# Altium footprint library Daxxn_Packages.PcbLib: 84 footprints (part 6 of 6)
Each footprint in its own frame and in the unit in brackets; x right, y up, seen from the top. Pads: shape width x height; smd on the part's side, far side on the other; paste and mask are expansions set on the pad; w line width, h text height; cw(c..) or ccw(c..) is an arc to the next point about the centre after c.
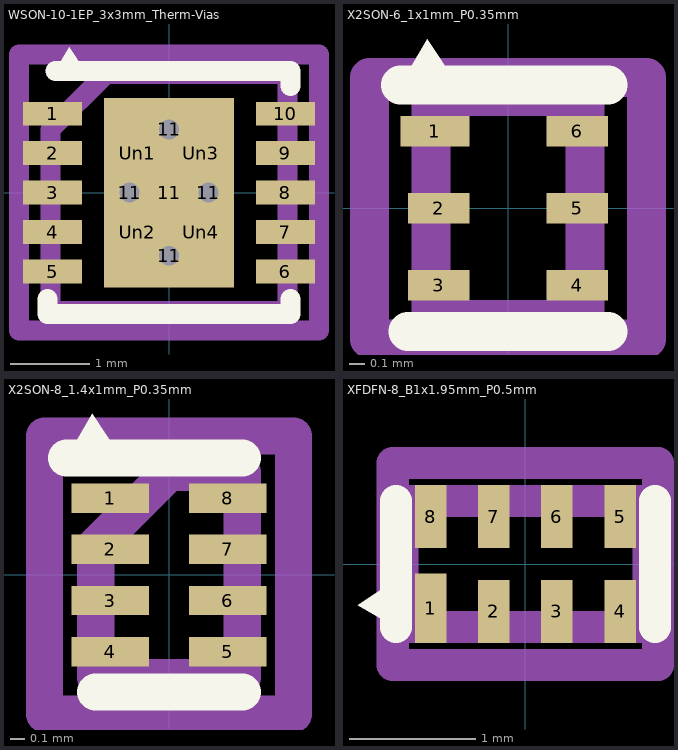
[diagram p5: the footprints below, top view; thin cyan lines are the x and y axes]

## WSON-10-1EP_3x3mm_Therm-Vias [mm]
pads (19):
  rect 0.75x0.3 smd: 1(-1.475,1) 2(-1.475,0.5) 3(-1.475,0) 4(-1.475,-0.5) 5(-1.475,-1) 6(1.475,-1) 7(1.475,-0.5) 8(1.475,0) 9(1.475,0.5) 10(1.475,1)
  round 0.55 hole 0.25: 11(-0.5,0) 11(0,-0.8) 11(0,0.8) 11(0.5,0)
  rect 1.65x2.4 smd: 11(0,0)
  rect 0.59x0.8 on Top Paste: Un1(-0.405,0.5) Un2(-0.405,-0.5) Un3(0.405,0.5) Un4(0.405,-0.5)
F.SilkS:
  region: -1.065,1.54 -1.44,1.54 -1.265,1.84
  lines w0.254: -1.54,-1.35 -1.54,-1.54 1.54,-1.54 1.54,-1.35 ; -1.44,1.54 1.54,1.54 1.54,1.35
F.CrtYd:
  lines w0.254: -1.9,-1.75 -1.9,1.75 1.9,1.75 1.9,-1.75 -1.9,-1.75
F.Fab:
  lines w0.254: -1.5,-1.5 -1.5,0.8 -0.8,1.5 1.5,1.5 1.5,-1.5 -1.5,-1.5
  text "'.Designator'" at -1.037,0.015 h0.25

## X2SON-6_1x1mm_P0.35mm [mm]
pads (6):
  rect 0.45x0.2 smd: 1(-0.475,0.5)
  rect 0.4x0.2 smd: 2(-0.45,0) 3(-0.45,-0.5) 4(0.45,-0.5) 5(0.45,0) 6(0.45,0.5)
F.SilkS:
  region: -0.325,0.8 -0.7,0.8 -0.525,1.1
  lines w0.254: -0.7,0.8 0.65,0.8 ; -0.65,-0.8 0.65,-0.8
F.CrtYd:
  lines w0.254: -0.9,-0.85 -0.9,0.85 0.9,0.85 0.9,-0.85 -0.9,-0.85
F.Fab:
  lines w0.254: -0.5,-0.725 -0.5,0.725 0.5,0.725 0.5,-0.725 -0.5,-0.725
  text "'.Designator'" at -1.037,0.015 h0.25

## X2SON-8_1.4x1mm_P0.35mm [mm]
pads (8):
  rect 0.53x0.2 smd: 1(-0.4,0.525) 2(-0.4,0.175) 3(-0.4,-0.175) 4(-0.4,-0.525) 5(0.4,-0.525) 6(0.4,-0.175) 7(0.4,0.175) 8(0.4,0.525)
F.SilkS:
  region: -0.325,0.8 -0.7,0.8 -0.525,1.1
  lines w0.254: -0.7,0.8 0.5,0.8 ; -0.5,-0.8 0.5,-0.8
F.CrtYd:
  lines w0.254: -0.85,-0.95 -0.85,0.95 0.85,0.95 0.85,-0.95 -0.85,-0.95
F.Fab:
  lines w0.254: -0.5,-0.7 -0.5,0.2 0,0.7 0.5,0.7 0.5,-0.7 -0.5,-0.7
  text "'.Designator'" at -0.027,-1.024 h0.25

## XFDFN-8_B1x1.95mm_P0.5mm [mm]
pads (8):
  rrect0% 0.25x0.55 smd: 1(-0.75,-0.35)
  rect 0.25x0.5 smd: 2(-0.25,-0.375) 3(0.25,-0.375) 4(0.75,-0.375) 5(0.75,0.375) 6(0.25,0.375) 7(-0.25,0.375) 8(-0.75,0.375)
F.SilkS:
  region: -1.025,-0.5 -1.325,-0.325 -1.025,-0.125
  lines w0.254: -1.025,-0.5 -1.025,0.5 ; 1.025,-0.5 1.025,0.5
F.CrtYd:
  lines w0.254: -1.05,-0.8 -1.05,0.8 1.05,0.8 1.05,-0.8 -1.05,-0.8
F.Fab:
  lines w0.254: -0.975,-0.5 -0.975,0.5 0.975,0.5 0.975,-0.5 -0.975,-0.5
  text "'.Designator'" at -0.622,0.059 h0.15